# EAGLE library part 3-1393788-6 (library Relays)
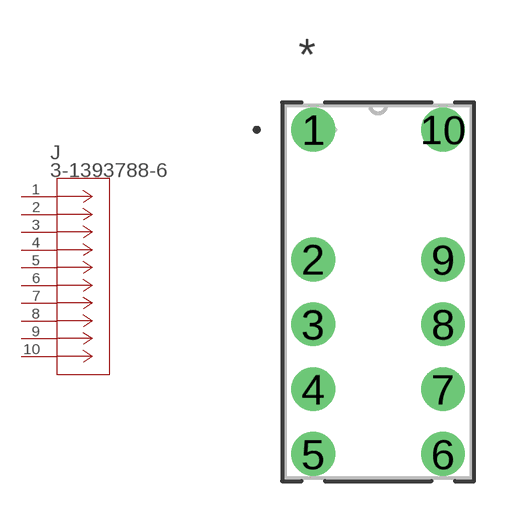
[diagram p62: symbol with the pads of CONN_3-1393788-6_TYCO; footprint CONN_3-1393788-6_TYCO]

Designator prefix J

## 3-1393788-6 (BUILT_BY: EMA_UL_Team; CATEGORY: Signal Relays; COPYRIGHT: Copyright (C) 2016 Accelerated Designs. All rights reserved; DESCRIPTION: V23079B1203B301; MANUFACTURER_PART_NUMBER: 3-1393788-6; PART_STATUS: active; SERIES: Axicom P2 Signal Relay; VENDOR: TE Connectivity)  [CONN_3-1393788-6_TYCO]
1  1  pas
2  2  pas
3  3  pas
4  4  pas
5  5  pas
6  6  pas
7  7  pas
8  8  pas
9  9  pas
10  10  pas

## Footprint CONN_3-1393788-6_TYCO (pad centres in mm)
drill 1.143 pad 1.651: 1 -5.08,12.7; 2 -5.08,7.62; 3 -5.08,5.08; 4 -5.08,2.54; 5 -5.08,0; 6 0,0; 7 0,2.54; 8 0,5.08; 9 0,7.62; 10 0,12.7